# Altium footprint library Connectors.PcbLib: 23 footprints (part 2 of 2)
Each footprint in its own frame and in the unit in brackets; x right, y up, seen from the top. Pads: shape width x height; smd on the part's side, far side on the other; paste and mask are expansions set on the pad; w line width, h text height; cw(c..) or ccw(c..) is an arc to the next point about the centre after c.
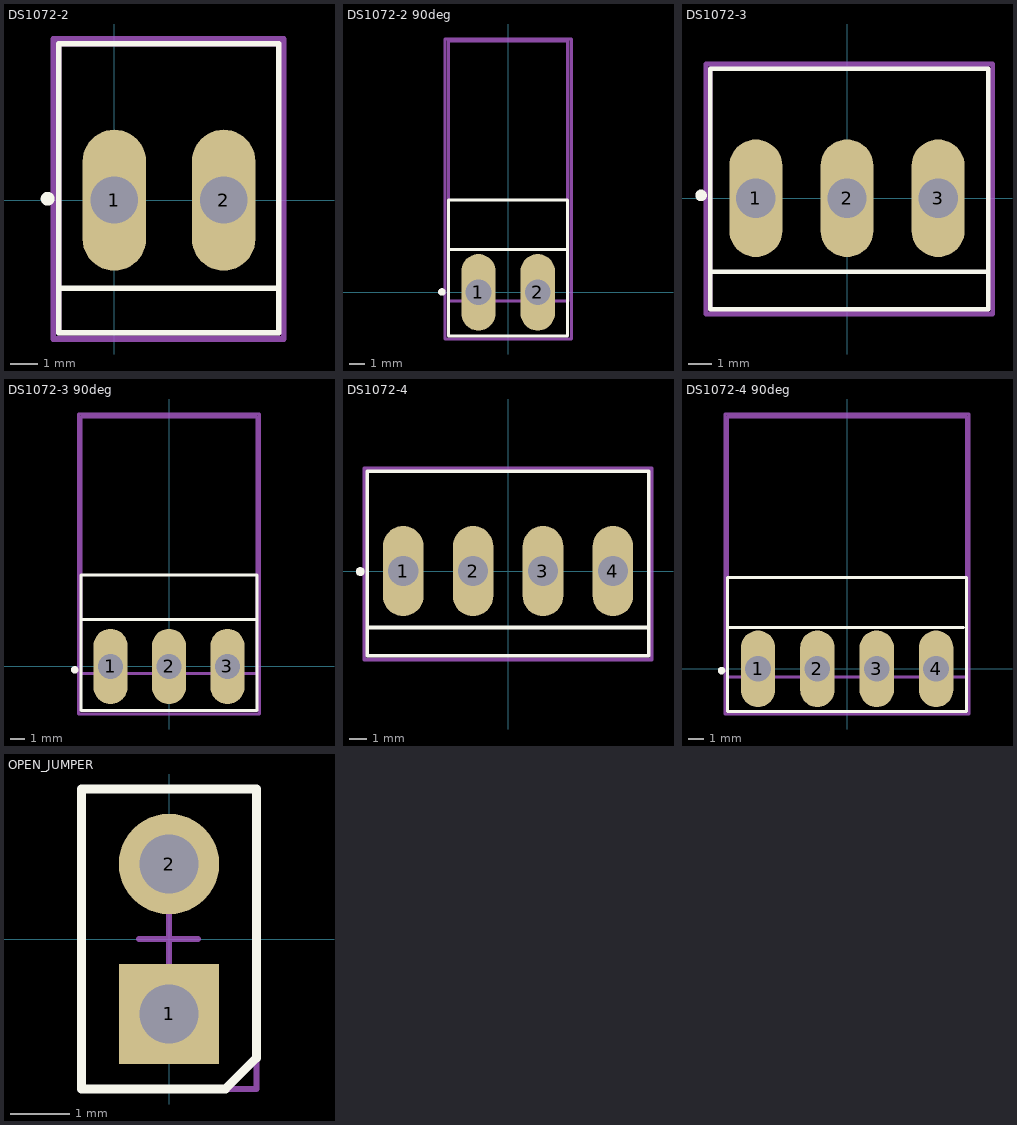
[diagram p1: the footprints below, top view; thin cyan lines are the x and y axes]

## DS1072-2 [mil] "connfly electronic CO,.LTD."
pads (2):
  oval 90x200 hole 66.93: 1(0,0) 2(155,0)
Top Overlay:
  circle w9.84: c-94.49,1.97 r4.92
  lines w7.87: -75,-125 230,-125 ; -78.74,-187.99 233.27,-187.99 233.27,221.46 -78.74,221.46 -78.74,-187.99
Mechanical 10:
  lines w7.87: -76.1,221.46 233.27,221.46 233.27,-187.99 -78.74,-187.99 -78.74,221.46 ; -78.74,221.46 -78.74,221.46
Mechanical 15:
  lines w7.87: -86.61,-196.85 -86.61,228.35 240.16,228.35 240.16,-196.85 -86.61,-196.85
3D body "User Library-PWL-2.step": height 545.28, standoff -139.76, extent -78.74,-188 233.07,221.45

## DS1072-2 90deg [mil] "connfly electronic CO,.LTD."
pads (2):
  oval 90x200 hole 66.93: 1(-77.5,0) 2(77.5,0)
Top Overlay:
  circle w9.84: c-173.23,0.98 r4.92
  lines w7.87: -150.53,112.2 154.47,112.2 ; -156.5,-114.17 -156.5,241.14 155.51,241.14 155.51,-114.17 -156.5,-114.17
Mechanical 10:
  lines w7.87: -156.5,-22.64 -155.91,-22.64 155.91,-22.64 155.91,657.21 -156.5,657.21 -156.5,-22.64
Mechanical 15:
  lines w7.87: -165.35,-122.05 165.35,-122.05 165.35,662.4 -165.35,662.4 -165.35,-122.05
3D body "User Library-PWL-2R.step": height 411.42, standoff -143.7, extent -155.91,-22.64 155.91,657.21

## DS1072-3 [mil] "connfly electronic CO,.LTD."
pads (3):
  oval 90x200 hole 66.93: 1(-155,0) 2(0,0) 3(155,0)
Top Overlay:
  circle w9.84: c-248.03,4.92 r4.92
  lines w7.87: -230,-125 240.16,-125 ; -232.28,-188.98 -232.28,220.47 240.16,220.47 240.16,-188.98 -232.28,-188.98
Mechanical 10:
  lines w7.87: -232.28,-188.98 -232.28,220.47 240.16,220.47 240.16,-188.98 -232.28,-188.98
Mechanical 15:
  lines w7.87: -240.16,-196.85 -240.16,228.35 248.03,228.35 248.03,-196.85 -240.16,-196.85
3D body "User Library-PWL-3.step": height 545.28, standoff -139.76, extent -228.54,-188.98 239.17,220.47

## DS1072-3 90deg [mil] "connfly electronic CO,.LTD."
pads (3):
  oval 90x200 hole 66.93: 1(-155,0) 2(0,0) 3(155,0)
Top Overlay:
  circle w9.84: c-250,-8.86 r4.92
  lines w7.87: -233.86,125 233.86,125.11 ; -233.86,-117.13 233.86,-117.13 233.86,243.11 -233.86,243.11 -233.86,-117.13
Mechanical 10:
  lines w7.87: -233.86,-19.06 -233.86,660.79 233.86,660.79 233.86,-19.06 -233.86,-19.06
Mechanical 15:
  lines w7.87: -240.16,-125.98 240.16,-125.98 240.16,669.29 -240.16,669.29 -240.16,-125.98
3D body "User Library-PWL-3R.step": height 411.42, standoff -143.7, extent -233.86,-19.06 233.86,660.79

## DS1072-4 [mil] "connfly electronic CO,.LTD."
pads (4):
  oval 90x200 hole 66.93: 1(-232.5,0) 2(-77.5,0) 3(77.5,0) 4(232.5,0)
Top Overlay:
  circle w9.84: c-327.76,-0.98 r4.92
  lines w7.87: -307.5,-125 307.5,-125 ; -311.81,-187.99 311.81,-187.99 311.81,221.46 -311.81,221.46 -311.81,-187.99
Mechanical 10:
  lines w7.87: -311.81,-187.99 -311.81,221.46 311.81,221.46 311.81,-187.99 -311.81,-187.99
Mechanical 15:
  lines w7.87: -318.9,-196.85 318.9,-196.85 318.9,228.35 -318.9,228.35 -318.9,-196.85
3D body "User Library-PWL-4.step": height 545.28, standoff -139.76, extent -311.81,-187.99 311.81,221.46

## DS1072-4 90deg [mil] "connfly electronic CO,.LTD."
pads (4):
  oval 90x200 hole 66.93: 1(-232.5,0) 2(-77.5,0) 3(77.5,0) 4(232.5,0)
Top Overlay:
  circle w9.84: c-327.76,-4.92 r4.92
  lines w7.87: -311.02,108.27 303.56,108.27 ; -311.81,-112.2 311.81,-112.2 311.81,238.19 -311.81,238.19 -311.81,-112.2
Mechanical 10:
  lines w7.87: -311.81,-22.01 311.81,-22.01 311.81,657.84 -311.81,657.84 -311.81,-22.01
Mechanical 15:
  lines w7.87: -318.9,-118.11 -318.9,665.35 318.9,665.35 318.9,-118.11 -318.9,-118.11
3D body "User Library-PWL-4R.step": height 411.42, standoff -143.7, extent -311.81,-22.01 311.81,657.84

## OPEN_JUMPER [mm]
pads (2):
  rect 1.7x1.7 hole 1: 1(0,-1.27)
  round 1.7 hole 1: 2(0,1.27)
Top Overlay:
  lines w0.15: -1.48,-2.54 0.955,-2.54 1.48,-2.015 1.48,2.54 -1.48,2.54 -1.48,-2.54
Mechanical 15:
  lines w0.1: -0.508,0 0.492,0 ; 0,-0.475 0,0.525 ; -1.48,-2.54 1.48,-2.54 1.48,2.54 -1.48,2.54 -1.48,-2.54
3D body "Samtec-TSW-102-23-F-S.step": height 8.38, standoff -2.92, extent -1.27,-2.54 1.27,2.54
3D body "jumper_akspt_z-black.stp": height 8.87, standoff 2.9, extent -1.265,0.03 3.715,2.47